# EAGLE library part 637101110107 (library WR-RAST)
WR-RAST 5mm Male Vertical Header Characteristics Pitch: 5mm Operating Temperature: -40 °C up to +110 °C Contact Type: Stamped Insulator Material: PA66 Insulator Flammability Rating: UL94 V-0 Insulator Color: Natural Contact Material: Copper Alloy Contact Plating: Tin Withstanding Voltage: 500 V (AC) Glow-Wire Compliancy Conform to IEC 60335-1 Tested at 750 °C and 850 °C Perform by third party laboratory Suitable for non-attended appliances and many other applications Applications White goods Unattended appliance Electrical Properties IR 16 A Working Voltage 380 V (AC) Withstanding Voltage 500 V (AC) Contact Resistance 20 mΩ General Information Pitch 5 mm Operating Temperature -40 °C up to +110 °C Contact Type Stamped Packaging Properties Packaging Tray Material Properties Insulator Material PA66 Insulator Flammability Rating UL94 V-0 Insulator Color Natural Contact Material Copper Alloy Contact Plating Tin <https://www.we-online.com/components/media/o798300v209%20Multi-WR-RAST5-637101110102.jpg> Details see: www.we-online.com/components/products/WR_RAST_5MM_MALE_VERTICAL_HEADER <www.we-online.com/catalog/WR_RAST_5MM_MALE_VERTICAL_HEADER/?utm_source=eagle_model&utm_medium=description_link&utm_campaign=eisos_eagle> Created by Ella 2024-10-10 2024 (C) Wurth Elektronik
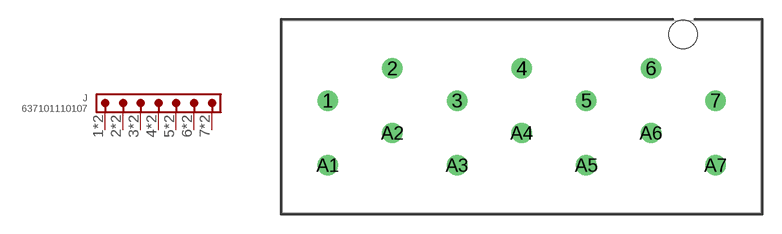
[diagram p4: symbol with the pads of 637101110107; footprint 637101110107]

Designator prefix J

## 637101110107 (CONTACT-RESISTANCE: 20mOhm; DATASHEET-URL: https://www.we-online.com/redexpert/spec/637101110107?ae; INSULATOR-COLOR: Natural; INSULATOR-MATERIAL: PA66; IR: 16A; PACKAGING: Tray; PART-NUMBER: 637101110107; PITCH: 5mm; POLARITY: 7; VALUE: 637101110107; WORKING-VOLTAGE: 380V(AC))  [637101110107]
1  1  pas
2  2  pas
3  3  pas
4  4  pas
5  5  pas
6  6  pas
7  7  pas
A1  1  pas
A2  2  pas
A3  3  pas
A4  4  pas
A5  5  pas
A6  6  pas
A7  7  pas

## Footprint 637101110107 (pad centres in mm)
WR-RAST 5mm Male Vertical Header
drill 1.05: 1 -15,1.25; 2 -10,3.75; 3 -5,1.25; 4 0,3.75; 5 5,1.25; 6 10,3.75; 7 15,1.25; A1 -15,-3.75; A2 -10,-1.25; A3 -5,-3.75; A4 0,-1.25; A5 5,-3.75; A6 10,-1.25; A7 15,-3.75
hole 2.2 at 12.5,6.4